# EAGLE library part IFX91041 (library RoboJackets-PowerICs)
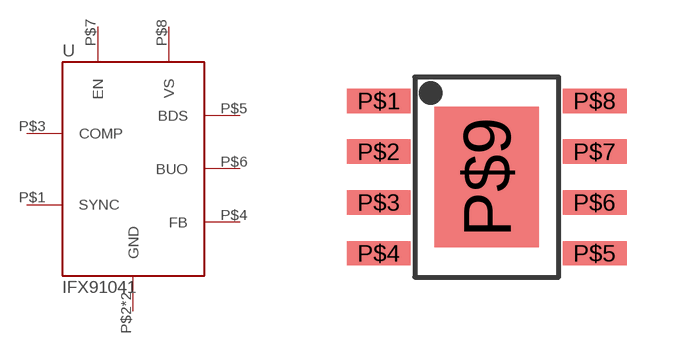
[diagram p13: symbol with the pads of SOIC-8-EXPOSED_PAD; footprint SOIC-8-EXPOSED_PAD]

Designator prefix U

## IFX91041  [SOIC-8-EXPOSED_PAD]
P$1  SYNC
P$2  GND
P$3  COMP
P$4  FB
P$5  BDS
P$6  BUO
P$7  EN
P$8  VS
P$9  GND

## Footprint SOIC-8-EXPOSED_PAD (pad centres in mm)
smd 1.6 x 0.61: P$1 -2.7,1.905; P$2 -2.7,0.635; P$3 -2.7,-0.635; P$4 -2.7,-1.905; P$5 2.7,-1.905; P$6 2.7,-0.635; P$7 2.7,0.635; P$8 2.7,1.905
smd 2.62 x 3.51: P$9 0,0